# EAGLE library part FIN1049MTCX (library sjg-isolation)
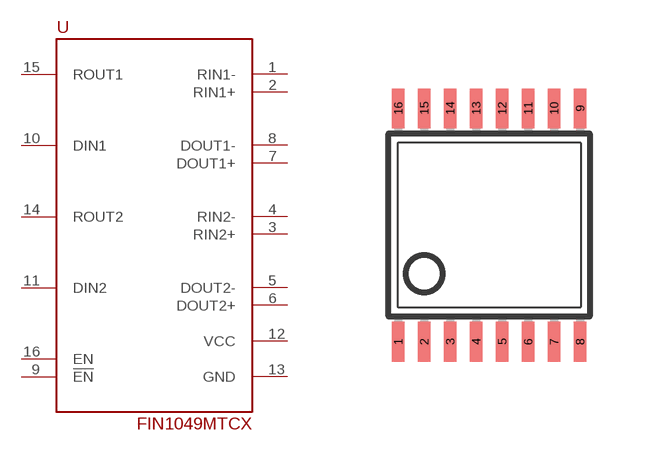
[diagram p1: symbol with the pads of TSSOP16; footprint TSSOP16]

Designator prefix -

## FIN1049MTCX  [TSSOP16]
1  RIN1-
2  RIN1+
3  RIN2+
4  RIN2-
5  DOUT2-
6  DOUT2+
7  DOUT1+
8  DOUT1-
9  !EN!
10  DIN1
11  DIN2
12  VCC
13  GND
14  ROUT2
15  ROUT1
16  EN

## Footprint TSSOP16 (pad centres in mm)
Thin Shrink Small Outline Plastic 16 MAX3223-MAX3243.pdf
smd 0.305 x 0.991: 1 -2.275,-2.918; 2 -1.625,-2.918; 3 -0.975,-2.918; 4 -0.325,-2.918; 5 0.325,-2.918; 6 0.975,-2.918; 7 1.625,-2.918; 8 2.275,-2.918; 9 2.275,2.918; 10 1.625,2.918; 11 0.975,2.918; 12 0.325,2.918; 13 -0.325,2.918; 14 -0.975,2.918; 15 -1.625,2.918; 16 -2.275,2.918